# Altium footprint library Operational_Amplifiers.PcbLib: 2 footprints
Each footprint in its own frame and in the unit in brackets; x right, y up, seen from the top. Pads: shape width x height; smd on the part's side, far side on the other; paste and mask are expansions set on the pad; w line width, h text height; cw(c..) or ccw(c..) is an arc to the next point about the centre after c.
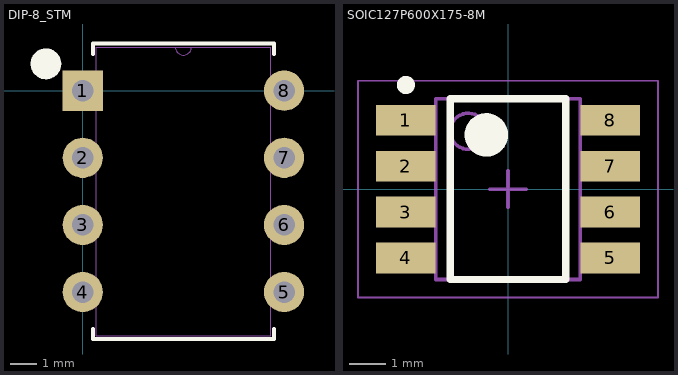
[diagram p0: the footprints below, top view; thin cyan lines are the x and y axes]

## DIP-8_STM [mil]
pads (8):
  rect 60x60 hole 32 mask+0: 1(0,0)
  round 60 hole 32 mask+0: 2(0,-100) 3(0,-200) 4(0,-300) 5(300,-300) 6(300,-200) 7(300,-100) 8(300,0)
Top Overlay:
  circle w10: c-55,40 r18.03
  rectangle: -70,25 -40,55
  lines w6: 15,-355 15,-370 285,-370 285,-355 ; 15,55 15,70 285,70 285,55
Top Component Outline:
  lines w0: 138,65 ccw(c150,65) 162,65
  lines w1: -16,-316 20,-316 20,-284 -16,-284 -16,-316 ; -16,-216 -16,-184 20,-184 20,-216 -16,-216 ; -16,-116 20,-116 20,-84 -16,-84 -16,-116 ; -16,-16 20,-16 20,16 -16,16 -16,-16 ; 20,-365 20,65 280,65 280,-365 20,-365 ; 280,-316 280,-284 316,-284 316,-316 280,-316 ; 280,-216 316,-216 316,-184 280,-184 280,-216 ; 280,-116 316,-116 316,-84 280,-84 280,-116 ; 280,-16 316,-16 316,16 280,16 280,-16
3D body "DIP-8_STM.step": height 205.12, standoff -100, extent -10,-365 310,65

## SOIC127P600X175-8M [mm] "SOIC, 8-Leads, Body 4,91x3,90mm, Pitch 1,27mm, IPC Low Density"
height 1.75
pads (8):
  rect 1.65x0.85 smd: 1(-2.825,1.905) 2(-2.825,0.635) 3(-2.825,-0.635) 4(-2.825,-1.905) 5(2.825,-1.905) 6(2.825,-0.635) 7(2.825,0.635) 8(2.825,1.905)
Top Overlay:
  circle w0.6: c-0.6,1.5 r0.3
  circle w0.25: c-2.825,2.88 r0.125
  lines w0.2: -1.6,-2.5 1.6,-2.5 1.6,2.5 -1.6,2.5 -1.6,-2.5
Mechanical 13:
  circle w0.1: c-1.1,1.6 r0.5
  lines w0.1: -2,-2.5 2,-2.5 2,2.5 -2,2.5 -2,-2.5
Mechanical 15:
  lines w0.05: -4.15,-3 4.15,-3 4.15,3 -4.15,3 -4.15,-3
  lines w0.1: -0.5,0 0.5,0 ; 0,-0.5 0,0.5
3D body "so8-3.STEP": height 1.7, standoff 0, extent -3,-2.577 3,2.323